# Altium schematic symbol library BrushlessDrive.SchLib: 3 symbols
Pins are listed as number, name and electrical type; pins without a type are passive.

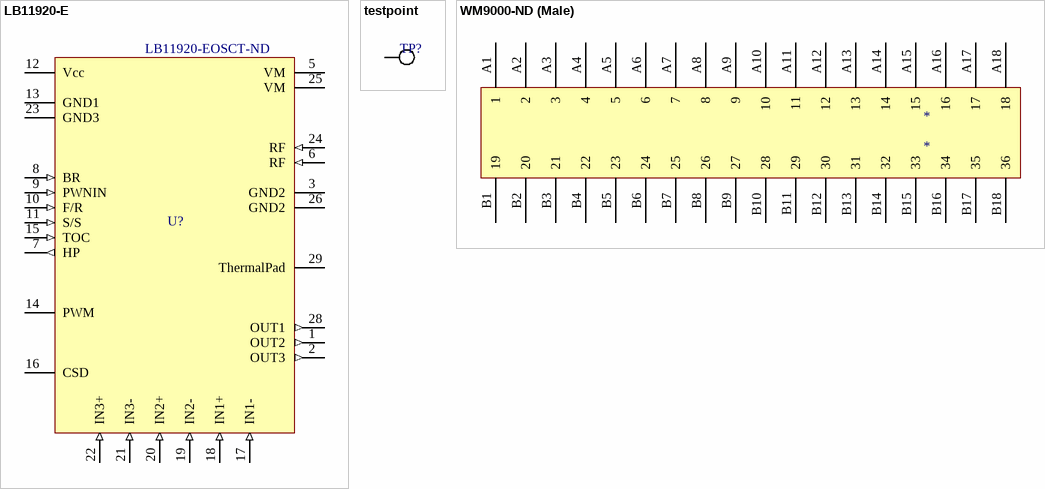
[diagram p0: symbols LB11920-E to WM9000-ND (Male)]

## LB11920-E
designator U?  Supplier Part Number 1: LB11920-EOSCT-ND  (hidden comment: *)
IC MOTOR DRIVER PAR 28HDIP; Manufacturer: ON Semiconductor; Manufacturer Part Number: LB11920-E; Motor Type - AC, DC: Brushless DC (BLDC); Function: Driver - Fully Integrated, Control and Power Stage; Output Configuration: Half Bridge (3); Interface: Parallel; Current - Output: 3.5A; Voltage - Supply: 4.5 V ~ 5.5 V; Voltage - Load: 9.5 V ~ 30 V; Supplier 1: Digi-Key; RoHS: RoHS Compliant; Category: Integrated Circuits (ICs); Stock 1: 65; Pricing 1: 1=10.11, 10=9.154 (CAD); Packaging: Cut Tape (CT); Motor Type - Stepper: -; Technology: Bipolar; Step Resolution: -; Applications: General Purpose; Operating Temperature: -20°C ~ 80°C (TA); Mounting Type: Through Hole; Package / Case: 28-SDIP (0.500", 12.70mm) Exposed Pad; Supplier Device Package: 28-DIP; ComponentLink1URL: http://www.onsemi.com/pub/Collateral/EN7229-D.PDF; ComponentLink1Description: http://www.onsemi.com/pub/Collateral/EN7229-D.PDF
footprint DIP28
pins: 1 OUT2 (out), 2 OUT3 (out), 3 GND2 (power), 5 VM (power), 6 RF (in), 7 HP (out), 8 BR (in), 9 PWNIN (in), 10 F/R (in), 11 S/S (in), 12 Vcc (power), 13 GND1 (power), 14 PWM "Set the PWM oscillation frequency", 15 TOC (in), 16 CSD, 17 IN1- (in), 18 IN1+ (in), 19 IN2- (in), 20 IN2+ (in), 21 IN3- (in), 22 IN3+ (in), 23 GND3 (power), 24 RF (in), 25 VM (power), 26 GND2 (power), 28 OUT1 (out), 29 ThermalPad (power)

## testpoint
designator TP?
Testpoint
footprint 0805 testpoint (Chip Capacitor, 2-Leads, Body 2,00x1,25mm, IPC Medium Density)
pins: 1

## WM9000-ND (Male)
designator *
footprint Edge connector 36Pos (PCI Express 36Pos 1MM gold)
pins: A1 1, A2 2, A3 3, A4 4, A5 5, A6 6, A7 7, A8 8, A9 9, A10 10, A11 11, A12 12, A13 13, A14 14, A15 15, A16 16, A17 17, A18 18, B1 19, B2 20, B3 21, B4 22, B5 23, B6 24, B7 25, B8 26, B9 27, B10 28, B11 29, B12 30, B13 31, B14 32, B15 33, B16 34, B17 35, B18 36